# EAGLE library part XF3M(1)-3015-1B (library digikey)
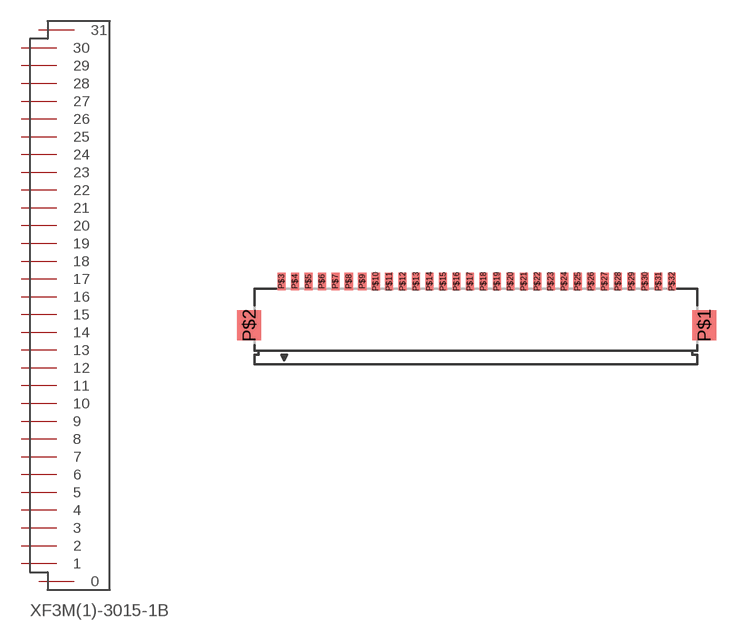
[diagram p3: symbol with the pads of FPC-30P-1MM; footprint FPC-30P-1MM]

Designator prefix -

## XF3M(1)-3015-1B  [FPC-30P-1MM]
P$1  0
P$2  31
P$3  1
P$4  2
P$5  3
P$6  4
P$7  5
P$8  6
P$9  7
P$10  8
P$11  9
P$12  10
P$13  11
P$14  12
P$15  13
P$16  14
P$17  15
P$18  16
P$19  17
P$20  18
P$21  19
P$22  20
P$23  21
P$24  22
P$25  23
P$26  24
P$27  25
P$28  26
P$29  27
P$30  28
P$31  29
P$32  30

## Footprint FPC-30P-1MM (pad centres in mm)
smd 1.8 x 2.2: P$1 17.66,-1.1; P$2 -16.14,-1.1
smd 0.6 x 1.3: P$3 -13.74,2.15; P$4 -12.74,2.15; P$5 -11.74,2.15; P$6 -10.74,2.15; P$7 -9.74,2.15; P$8 -8.74,2.15; P$9 -7.74,2.15; P$10 -6.74,2.15; P$11 -5.74,2.15; P$12 -4.74,2.15; P$13 -3.74,2.15; P$14 -2.74,2.15; P$15 -1.74,2.15; P$16 -0.74,2.15; P$17 0.26,2.15; P$18 1.26,2.15; P$19 2.26,2.15; P$20 3.26,2.15; P$21 4.26,2.15; P$22 5.26,2.15; P$23 6.26,2.15; P$24 7.26,2.15; P$25 8.26,2.15; P$26 9.26,2.15; P$27 10.26,2.15; P$28 11.26,2.15; P$29 12.26,2.15; P$30 13.26,2.15; P$31 14.26,2.15; P$32 15.26,2.15